# EAGLE library part M25P32 (library AlienWhoop)
Dataflash
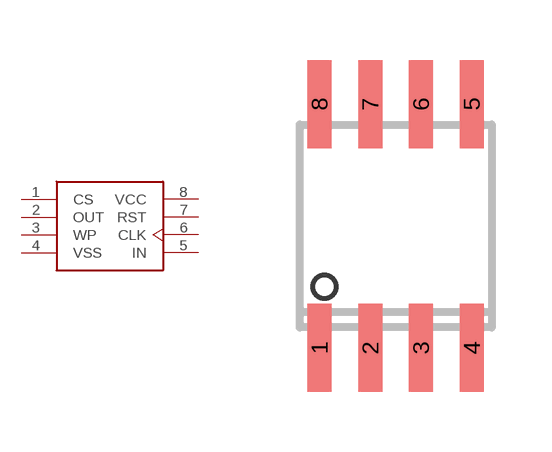
[diagram p0: symbol with the pads of M25P32; footprint M25P32]

Designator prefix U

## M25P32  [M25P32]
1  CS
2  OUT  out
3  WP
4  VSS  pwr
5  IN  in
6  CLK
7  RST
8  VCC  pwr

## Footprint M25P32 (pad centres in mm)
Dataflash
smd 0.6 x 2.2: 1 -1.905,-3.048; 2 -0.635,-3.048; 3 0.635,-3.048; 4 1.905,-3.048; 5 1.905,3.048; 6 0.635,3.048; 7 -0.635,3.048; 8 -1.905,3.048